# Altium schematic symbol library SN6501.SchLib: 1 symbol
Pins are listed as number, name and electrical type; pins without a type are passive.

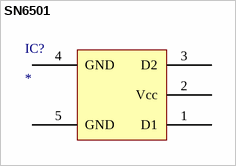
[diagram p0: symbol SN6501]

## SN6501
designator IC?
footprint SOT23-5 (pitch 0.95 mm)
pins: 1 D1, 2 Vcc, 3 D2, 4 GND, 5 GND